# Altium schematic symbol library LED_YEL.Schlib: 1 symbol
Pins are listed as number, name and electrical type; pins without a type are passive.

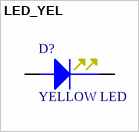
[diagram p0: symbol LED_YEL]

## LED_YEL
designator D?, comment YELLOW LED
pins: A, C